# Altium footprint library PCB - DIODES - SAMSUNG LM561B.PCBLIB: 1 footprints
Each footprint in its own frame and in the unit in brackets; x right, y up, seen from the top. Pads: shape width x height; smd on the part's side, far side on the other; paste and mask are expansions set on the pad; w line width, h text height; cw(c..) or ccw(c..) is an arc to the next point about the centre after c.
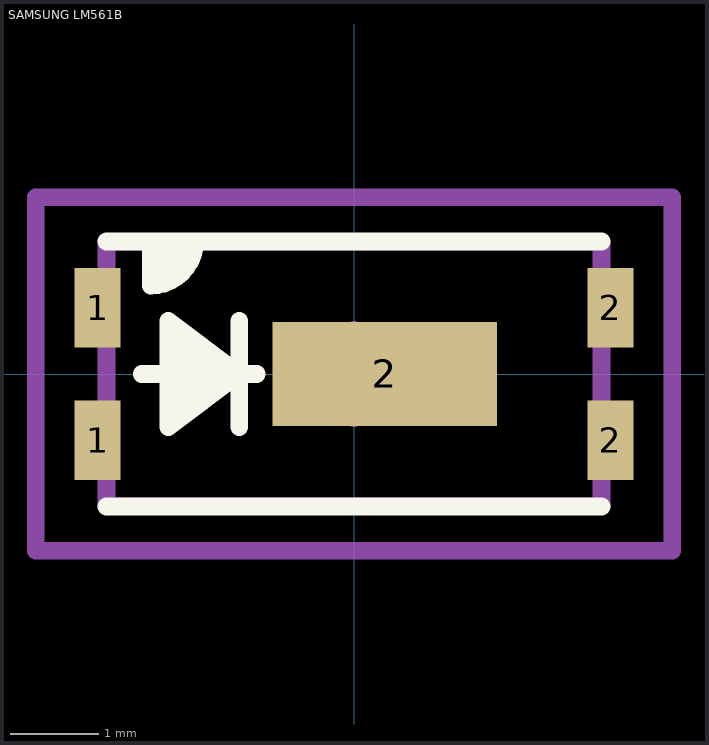
[diagram p0: the footprint, top view; thin cyan lines are the x and y axes]

## SAMSUNG LM561B [mm]
height 0.8
pads (5):
  rect 0.52x0.9 smd: 1(-2.9,-0.75) 1(-2.9,0.75) 2(2.9,-0.75) 2(2.9,0.75)
  rect 2.54x1.18 smd: 2(0.35,0)
Top Overlay:
  region: -2.1,0.6 -2.1,-0.6 -2,-0.6 -1.4,0 -2,0.6
  region: -1.8,1.5 -2.3,1.5 -2.3,1 -2.1,1 -1.8,1.3
  lines w0.2: -2.8,-1.5 2.8,-1.5 ; -2.8,1.5 2.8,1.5 ; -2.4,0 -1.1,0 ; -2.3,1.5 -2.3,1 ; -1.8,1.5 cw(c-2.3,1.5) -2.3,1 ; -1.3,-0.6 -1.3,0.6 ; -2.3,1 -2.3,1 ; -2.1,-0.6 -1.3,0 -2.1,0.6 -2.1,-0.6
Mechanical 1:
  lines w0.2: -2.8,-1.498 -2.8,1.498 2.8,1.498 2.8,-1.498 -2.8,-1.498
Mechanical 15:
  lines w0.2: -3.6,-2 3.6,-2 3.6,2 -3.6,2 -3.6,-2
Mechanical 2 (Mech9):
  lines w0.2: -0.5,0 0.5,0 ; 0,-0.5 0,0.5
3D body "Samsung LM561B LED.STEP": height 0.8, standoff 0, extent -2.8,-1.498 2.8,1.498